# Altium schematic symbol library R.SchLib: 52 symbols
Pins are listed as number, name and electrical type; pins without a type are passive.

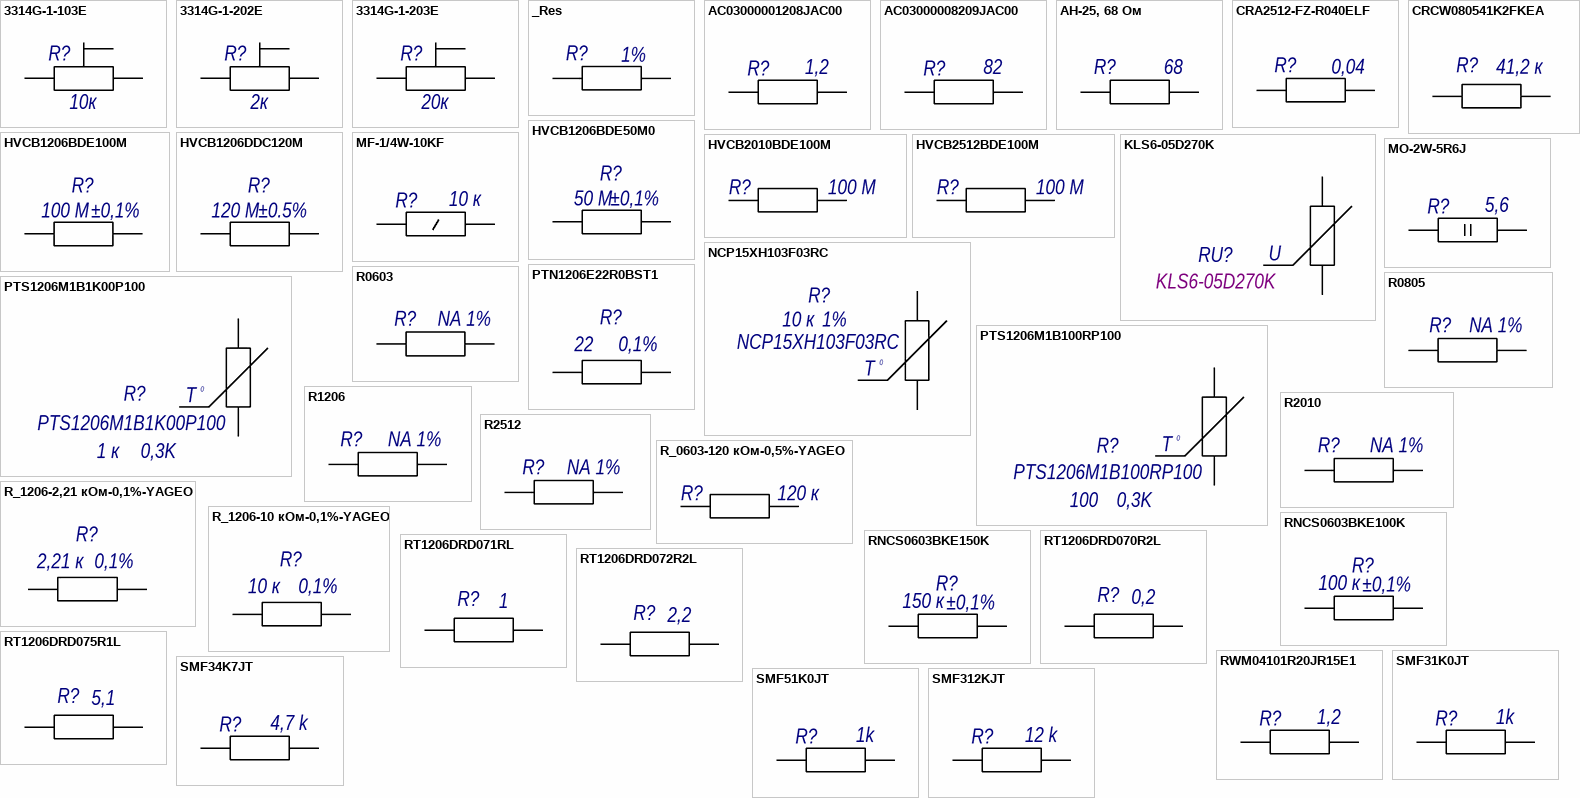
[diagram p0: symbols 3314G-1-103E to SMF312KJT]

## 3314G-1-103E
designator R?, comment value 10к  (hidden comment: Резистор 3314G-1-103E фирма "Bourns Inc.")
10 kOhms 0.25W, 1/4W Gull Wing Surface Mount Trimmer Potentiometer Cermet 1 Turn Top Adjustment; Tolerance: 20%; Manufacturer: Bourns Inc.; PartNumber: 3314G-1-103E; GOST: Резистор 3314G-1-103E фирма "Bourns Inc."
footprint 3314G-1 (Dim 4.5mm*4.5mm H=2.55mm)
pins: 1, 2, P 3
1 alternate drawing of the same symbol

## 3314G-1-202E
designator R?, comment value 2к  (hidden comment: Резистор 3314G-1-202E фирма "Bourns Inc.")
2 kOhms 0.25W, 1/4W Gull Wing Surface Mount Trimmer Potentiometer Cermet 1 Turn Top Adjustment; Tolerance: 20%; Manufacturer: Bourns Inc.; PartNumber: 3314G-1-202E; GOST: Резистор 3314G-1-202E фирма "Bourns Inc."
footprint 3314G-1 (Dim 4.5mm*4.5mm H=2.55mm)
pins: 1, 2, P 3
1 alternate drawing of the same symbol

## 3314G-1-203E
designator R?, comment value 20к  (hidden comment: Резистор 3314G-1-203E фирма "Bourns Inc.")
20 kOhms 0.25W, 1/4W Gull Wing Surface Mount Trimmer Potentiometer Cermet 1 Turn Top Adjustment; PartNumber: 3314G-1-202E; Tolerance: 20%; Manufacturer: Bourns Inc.; GOST: Резистор 3314G-1-203E фирма "Bourns Inc."
footprint 3314G-1 (Dim 4.5mm*4.5mm H=2.55mm)
pins: 1, 2, P 3
1 alternate drawing of the same symbol

## _Res
designator R?, comment 1%
Resistor; Tol: 1%
pins: 1, 2
1 alternate drawing of the same symbol

## AC03000001208JAC00
designator R?, comment value 1,2  (hidden comment: Резистор AC03000001208JAC00 фирма "Vishay")
Res 1.2 Ohms 5% 3W AXIAL; Power: 3Вт; PartNumber: AC03000001208JAC00; Tolerance: 5%; GOST: Резистор AC03000001208JAC00 фирма "Vishay"
footprint AC03 (Res AXIAL (L= 13mm (18mm) D=4.8mm) Vichay)
pins: 1, 2

## AC03000008209JAC00
designator R?, comment value 82  (hidden comment: Резистор AC03000008209JAC00 фирма "Vishay")
RES 82 OHM 3W 5% AXIAL; Power: 3Вт; PartNumber: AC03000008209JAC00; Tolerance: 5%; GOST: Резистор AC03000008209JAC00 фирма "Vishay"
footprint AC03 (Res AXIAL (L= 13mm (18mm) D=4.8mm) Vichay)
pins: 1, 2

## AH-25, 68 Ом
designator R?, comment value 68  (hidden comment: Резистор AH-25-25 Вт-68 Ом ±5% фирма "Thunder")
68 Ом, 25 Вт, 5%, резистор силовой; PartNumber: WSLP0805R0100DEA; Tol: 5%; Manufacturer: Thunder; GOST: Резистор AH-25-25 Вт-68 Ом ±5% фирма "Thunder"
footprint AH-25 (Res 25W (L= 28mm B=27mm) Thunder)
pins: 1, 2
1 alternate drawing of the same symbol

## CRA2512-FZ-R040ELF
designator R?, comment value 0,04  (hidden comment: Резистор чип CRA2512-FZ-R040ELF фирма "Bourns")
High Power Current Sense Chip Resistor, 0.04 Ohm, 1%, 3W, ±50 PPM/°C, 2512; Manufacturer: Bourns; Tol: 1%; PartNumber: CRA2512-FZ-R040ELF; GOST: Резистор чип CRA2512-FZ-R040ELF фирма "Bourns"
footprint R2512_H06M (Dim 6.3mm*3.3mm H=0.6mm)
pins: 1, 2
1 alternate drawing of the same symbol

## CRCW080541K2FKEA
designator R?, comment value 41,2 к  (hidden comment: Резистор чип CRCW080541K2FKEA фирма "Vishay / Dale")
чип 0805-0.125 Вт-41,2 кОм ±1% +155С 150В Vishay / Dale; Tc: ±100ppm/°C; Tol: 1%; Manufacturer: Vishay / Dale; PartNumber: CRCW080541K2FKEA; GOST: Резистор чип CRCW080541K2FKEA фирма "Vishay / Dale"
footprint R0805_H06M (Dim 2mm*1.25mm H=0.6mm)
pins: 1, 2
1 alternate drawing of the same symbol

## HVCB1206BDE50M0
designator R?, comment value 50 М  Tol: ±0,1%  (hidden comment: Резистор чип HVCB1206BDE50M0 фирма "Stackpole Electronics")
50 MOhms ±0.1% 0.333W, 1/3W Chip Resistor 1206 (3216 Metric) High Voltage, Pulse Withstanding Thick Film; TYP: чип 1206; Categories: Chip Resistor - Surface Mount; Temperature Coefficient: ±25ppm/°C; Manufacturer: фирма "Stackpole Electronics"; PartNumber: HVCB1206BDE50M0; Power: 0.333W; Name: Резистор; GOST: Резистор чип HVCB1206BDE50M0 фирма "Stackpole Electronics"; Operating Temperature: -55°C ~ 150°C; Package: 1206 (3216 Metric); Features: High Voltage, Pulse Withstanding; Size / Dimension: 0.126" L x 0.063" W (3.20mm x 1.60mm); Height: 0.030" (0.75mm)
footprint R1206_H06M (Dim 3.2mm*1.6mm H=0.6mm)
pins: 1, 2
1 alternate drawing of the same symbol

## HVCB1206BDE100M
designator R?, comment value 100 М  Tol: ±0,1%  (hidden comment: Резистор чип HVCB1206BDE100M фирма "Stackpole Electronics")
100 MOhms ±0.1% 0.333W, 1/3W Chip Resistor 1206 (3216 Metric) High Voltage, Pulse Withstanding Thick Film; TYP: чип 1206; Categories: Chip Resistor - Surface Mount; Temperature Coefficient: ±25ppm/°C; Manufacturer: фирма "Stackpole Electronics"; PartNumber: HVCB1206BDE100M; Power: 0.333W; Name: Резистор; GOST: Резистор чип HVCB1206BDE100M фирма "Stackpole Electronics"; Operating Temperature: -55°C ~ 150°C; Package: 1206 (3216 Metric); Features: High Voltage, Pulse Withstanding; Size / Dimension: 0.126" L x 0.063" W (3.20mm x 1.60mm); Height: 0.030" (0.75mm)
footprint R1206_H06M (Dim 3.2mm*1.6mm H=0.6mm)
pins: 1, 2
1 alternate drawing of the same symbol

## HVCB1206DDC120M
designator R?, comment value 120 М  Tol: ±0.5%  (hidden comment: Резистор чип HVCB1206DDC120M фирма "Stackpole Electronics")
120 MOhms ±0.5% 0.333W, 1/3W Chip Resistor 1206 (3216 Metric) High Voltage, Moisture Resistant, Pulse Withstanding Thick Film; TYP: чип 1206; Categories: Chip Resistor - Surface Mount; Temperature Coefficient: ±50ppm/°C; Manufacturer: фирма "Stackpole Electronics"; PartNumber: HVCB1206DDC120M; Power: 0.333W; Name: Резистор; GOST: Резистор чип HVCB1206DDC120M фирма "Stackpole Electronics"; Operating Temperature: -55°C ~ 150°C; Package: 1206 (3216 Metric); Features: High Voltage, Pulse Withstanding; Size / Dimension: 0.126" L x 0.063" W (3.20mm x 1.60mm); Height: 0.030" (0.75mm)
footprint R1206_H06M (Dim 3.2mm*1.6mm H=0.6mm)
pins: 1, 2
1 alternate drawing of the same symbol

## HVCB2010BDE100M
designator R?, comment value 100 М  (hidden comment: Резистор чип HVCB2010BDE100M фирма "Stackpole Electronics")
100 MOhms ±0.1% 1W Chip Resistor 2010; Tol: ±0,1%; Power: 1 Вт; TYP: чип 2010; Categories: Chip Resistor - Surface Mount; Temperature Coefficient: ±25ppm/°C; Manufacturer: фирма "Stackpole Electronics"; PartNumber: HVCB2010BDE100M; Name: Резистор; GOST: Резистор чип HVCB2010BDE100M фирма "Stackpole Electronics"; Operating Temperature: -55°C ~ 150°C; Package: 2010; Features: High Voltage, Pulse Withstanding; Size / Dimension: 5.08mm x 2.54mm; Height: 0.030" (0.76mm)
footprint R2010_H06M (Dim 5mm*2.5mm H=0.6mm)
pins: 1, 2
1 alternate drawing of the same symbol

## HVCB2512BDE100M
designator R?, comment value 100 М  (hidden comment: Резистор чип HVCB2512BDE100M фирма "Stackpole Electronics")
100 MOhms ±0.1% 2W Chip Resistor 2512 (6432 Metric) High Voltage, Pulse Withstanding Thick Film; Tol: ±0,1%; Power: 2 Вт; TYP: чип 2512; Categories: Chip Resistor - Surface Mount; Temperature Coefficient: ±25ppm/°C; Manufacturer: фирма "Stackpole Electronics"; PartNumber: HVCB2512BDE100M; Name: Резистор; GOST: Резистор чип HVCB2512BDE100M фирма "Stackpole Electronics"; Operating Temperature: -55°C ~ 150°C; Package: 2512 (6432 Metric); Features: High Voltage, Pulse Withstanding; Size / Dimension: 0.250" L x 0.125" W (6.35mm x 3.18mm); Height: 0.030" (0.76mm)
footprint R2512_H06M (Dim 6.3mm*3.3mm H=0.6mm)
pins: 1, 2
1 alternate drawing of the same symbol

## KLS6-05D270K
designator RU?, comment PartNumber: KLS6-05D270K  (hidden comment: Варистор KLS6-05D270K фирма "KLS Electronic Co.")
Varistor AC=17В, DC=22В 10%; Manufacturer: KLS Electronic Co.; GOST: Варистор KLS6-05D270K фирма "KLS Electronic Co."
footprint KLS6-05D (Varistor, round, D=7.5 mm max, B=6mm max, pitch=5mm, d=0.6mm)
pins: 1, 2
1 alternate drawing of the same symbol
text: U

## MF-1/4W-10KF
designator R?, comment value 10 к  (hidden comment: Резистор MF-1/4W-10KF)
Res 10 kOhms 1% 0,25W AXIAL MF-25 (С2-23 0,25 Вт); PartNumber: Тайвань; Power: 0,25 Вт; Tolerance: 1%; GOST: Резистор MF-1/4W-10KF
footprint С2-23 0.25 Вт (10mm) (Res AXIAL (L= 6mm (10mm) D=2.5mm))
pins: 1, 2

## MO-2W-5R6J
designator R?, comment value 5,6  (hidden comment: Резистор MO-2W-5R6J фирма "KLS Electronic")
Res 5.6 Ohms 5% 2W AXIAL MO-200 (С2-23 2 Вт); Power: 2Вт; PartNumber: KLS Electronic; Tolerance: 5%; GOST: Резистор MO-2W-5R6J фирма "KLS Electronic"
footprint С2-23 2 Вт (25mm) (Res AXIAL (L= 15mm (25mm) D=5mm))
pins: 1, 2

## NCP15XH103F03RC
designator R?, comment value 10 к  Tol: 1%  PartNumber: NCP15XH103F03RC  (hidden comment: Терморезистор NCP15XH103F03RC фирма "Murata")
NTC Thermistors 10 kOhms -40°C ~ 125°C  0402 (1005 Metric); Manufacturer: Murata; GOST: Терморезистор NCP15XH103F03RC фирма "Murata"
footprint R0402_H05M (Dim 1mm*0.5mm H=0.5mm)
pins: 1, 2
1 alternate drawing of the same symbol
text: T; 0

## PTN1206E22R0BST1
designator R?, comment value 22  Tol: 0,1%  (hidden comment: Резистор чип 1206-0,4 Вт-22 Ом ±0,1% фирма "VISHAY")
22 Ohms ±0.1% 0.4W, 2/5W Chip Resistor 1206 (3216 Metric) Anti-Sulfur, Moisture Resistant, Non-Inductive Thin Film; Manufacturer: Vishay Thin Film; PartNumber: PTN1206E22R0BST1; Hight: 0.84mm; GOST: Резистор чип 1206-0,4 Вт-22 Ом ±0,1% фирма "VISHAY"
footprint R1206_H06M (Dim 3.2mm*1.6mm H=0.6mm)
pins: 1, 2
1 alternate drawing of the same symbol

## PTS1206M1B1K00P100
designator R?, comment value 1 к  Tol: 0,3K  PartNumber: PTS1206M1B1K00P100  (hidden comment: Терморезистор PTS1206M1B1K00P100 фирма "Vishay")
1 kOhms RTD Platinum ±3850ppm/°C -55°C ~ 175°C 1206 (3216 Metric); Manufacturer: VISHAY; GOST: Терморезистор PTS1206M1B1K00P100 фирма "Vishay"
footprint R1206_H06M (Dim 3.2mm*1.6mm H=0.6mm)
pins: 1, 2
1 alternate drawing of the same symbol
text: T; 0

## PTS1206M1B100RP100
designator R?, comment value 100  Tol: 0,3K  PartNumber: PTS1206M1B100RP100  (hidden comment: Терморезистор PTS1206M1B100RP100 фирма "Vishay")
100 Ohms RTD Platinum ±3850ppm/°C -55°C ~ 175°C 1206 (3216 Metric); Manufacturer: VISHAY; GOST: Терморезистор PTS1206M1B100RP100 фирма "Vishay"
footprint R1206_H06M (Dim 3.2mm*1.6mm H=0.6mm)
pins: 1, 2
1 alternate drawing of the same symbol
text: T; 0

## R0603
designator R?, comment NA 1%
Resistor; Manufacturer: Any; Tol: 1%; PartNumber: NA; Value: NA
footprint R0603_H05M (Dim 1.6mm*0.8mm H=0.45mm)
pins: 1, 2
1 alternate drawing of the same symbol

## R0805
designator R?, comment NA 1%
Resistor; Manufacturer: Any; PartNumber: NA; Value: NA; Tol: 1%
footprint R0805_H06M (Dim 2mm*1.25mm H=0.6mm)
pins: 1, 2
1 alternate drawing of the same symbol

## R1206
designator R?, comment NA 1%
Resistor; Manufacturer: Any; Tol: 1%; PartNumber: NA; Value: NA
footprint R1206_H06M (Dim 3.2mm*1.6mm H=0.6mm)
pins: 1, 2
1 alternate drawing of the same symbol

## R2010
designator R?, comment NA 1%
Resistor; Manufacturer: Any; Tol: 1%; PartNumber: NA; Value: NA
footprint R2010_H06M (Dim 5mm*2.5mm H=0.6mm)
pins: 1, 2
1 alternate drawing of the same symbol

## R2512
designator R?, comment NA 1%
Resistor; Manufacturer: Any; Tol: 1%; PartNumber: NA; Value: NA
footprint R2512_H06M (Dim 6.3mm*3.3mm H=0.6mm)
pins: 1, 2
1 alternate drawing of the same symbol

## R_0603-120 кОм-0,5%-YAGEO
designator R?, comment value 120 к  (hidden comment: Резистор чип 0603-0,1 Вт-120 кОм ±0,5% фирма "YAGEO")
чип 0603-0,1 Вт-120 кОм ±0,5% фирма "YAGEO"; Tol: ±0.5%; Power: 0,1 Вт; Manufacturer: фирма "YAGEO"; Name: Резистор; TYP: чип 0603; GOST: Резистор чип 0603-0,1 Вт-120 кОм ±0,5% фирма "YAGEO"
footprint R0603_H05M (Dim 1.6mm*0.8mm H=0.45mm)
pins: 1, 2
1 alternate drawing of the same symbol

## R_1206-2,21 кОм-0,1%-YAGEO
designator R?, comment value 2,21 к  Tol: 0,1%  (hidden comment: Резистор чип 1206-0,25 Вт-2,21 кОм ±0,1% фирма "YAGEO")
чип 1206-0.25 Вт- 2,21 кОм ±0.1%; Manufacturer: Yageo; GOST: Резистор чип 1206-0,25 Вт-2,21 кОм ±0,1% фирма "YAGEO"
footprint R1206_H06M (Dim 3.2mm*1.6mm H=0.6mm)
pins: 1, 2
1 alternate drawing of the same symbol

## R_1206-10 кОм-0,1%-YAGEO
designator R?, comment value 10 к  Tol: 0,1%  (hidden comment: Резистор чип 1206-0,25 Вт-10 кОм ±0,1% фирма "YAGEO")
чип 1206-0.25 Вт- 10 кОм ±0.1%; Manufacturer: Yageo; GOST: Резистор чип 1206-0,25 Вт-10 кОм ±0,1% фирма "YAGEO"
footprint R1206_H06M (Dim 3.2mm*1.6mm H=0.6mm)
pins: 1, 2
1 alternate drawing of the same symbol

## RNCS0603BKE100K
designator R?, comment value 100 к  Tol: ±0,1%  (hidden comment: Резистор чип RNCS0603BTE100K фирма "Stackpole Electronics")
100 kOhms ±0.1% 0.063W, 1/16W Chip Resistor 0603 (1608 Metric) Anti-Corrosive, Automotive AEC-Q200, Moisture Resistant Thin Film; Power: 1/16 Вт; TYP: чип 0603; Manufacturer: Stackpole Electronics; PartNumber: RNCS0603BTE100K; Name: Резистор; GOST: Резистор чип RNCS0603BTE100K фирма "Stackpole Electronics"; Features: Anti-Corrosive, Automotive AEC-Q200, Moisture Resistant
footprint R0603_H05M (Dim 1.6mm*0.8mm H=0.45mm)
pins: 1, 2
1 alternate drawing of the same symbol

## RNCS0603BKE150K
designator R?, comment value 150 к  Tol: ±0,1%  (hidden comment: Резистор чип RNCS0603BTE150K фирма "Stackpole Electronics")
150 kOhms ±0.1% 0.063W, 1/16W Chip Resistor 0603 (1608 Metric) Anti-Corrosive, Automotive AEC-Q200, Moisture Resistant Thin Film; Power: 1/16 Вт; TYP: чип 0603; Manufacturer: Stackpole Electronics; PartNumber: RNCS0603BTE150K; Name: Резистор; GOST: Резистор чип RNCS0603BTE150K фирма "Stackpole Electronics"; Features: Anti-Corrosive, Automotive AEC-Q200, Moisture Resistant
footprint R0603_H05M (Dim 1.6mm*0.8mm H=0.45mm)
pins: 1, 2
1 alternate drawing of the same symbol

## RT1206DRD070R2L
designator R?, comment value 0,2  (hidden comment: Резистор чип RT1206DRD070R2L фирма "YAGEO")
чип 1206-0.25 Вт- 0,2 Ом ±0.5%; Manufacturer: Yageo; Tol: ±0,5%; Tc: ±25ppm/°C; PartNumber: RT1206DRD070R2L; GOST: Резистор чип RT1206DRD070R2L фирма "YAGEO"
footprint R1206_H06M (Dim 3.2mm*1.6mm H=0.6mm)
pins: 1, 2
1 alternate drawing of the same symbol

## RT1206DRD071RL
designator R?, comment value 1  (hidden comment: Резистор чип RT1206DRD071RL фирма "YAGEO")
чип 1206-0.25 Вт- 1 Ом ±0.5%; Manufacturer: Yageo; Tol: ±0,5%; Tc: ±25ppm/°C; PartNumber: RT1206DRD071RL; GOST: Резистор чип RT1206DRD071RL фирма "YAGEO"
footprint R1206_H06M (Dim 3.2mm*1.6mm H=0.6mm)
pins: 1, 2
1 alternate drawing of the same symbol

## RT1206DRD072R2L
designator R?, comment value 2,2  (hidden comment: Резистор чип RT1206DRD072R2L фирма "YAGEO")
чип 1206-0.25 Вт- 2,2 Ом ±0.5%; Manufacturer: Yageo; Tol: ±0,5%; Tc: ±25ppm/°C; PartNumber: RT1206DRD072R2L; GOST: Резистор чип RT1206DRD072R2L фирма "YAGEO"
footprint R1206_H06M (Dim 3.2mm*1.6mm H=0.6mm)
pins: 1, 2
1 alternate drawing of the same symbol

## RT1206DRD075R1L
designator R?, comment value 5,1  (hidden comment: Резистор чип RT1206DRD075R1L фирма "YAGEO")
чип 1206-0.25 Вт- 5,1 Ом ±0.5%; Manufacturer: Yageo; Tol: ±0,5%; Tc: ±25ppm/°C; PartNumber: RT1206DRD075R1L; GOST: Резистор чип RT1206DRD075R1L фирма "YAGEO"
footprint R1206_H06M (Dim 3.2mm*1.6mm H=0.6mm)
pins: 1, 2
1 alternate drawing of the same symbol

## RWM04101R20JR15E1
designator R?, comment value 1,2  (hidden comment: Резистор RWM04101R20JR15E1 фирма "Vishay")
Res 1.2 Ohms 5% 3W Through Hole Resistor Axial Flame Proof, Safety Wirewound; Power: 3Вт; PartNumber: RWM04101R20JR15E1; Tolerance: 5%; GOST: Резистор RWM04101R20JR15E1 фирма "Vishay"
footprint RWM4x10 (Res AXIAL (L= 13mm (20mm) D=6.5mm) Vichay)
pins: 1, 2

## SMF31K0JT
designator R?, comment value 1k  (hidden comment: Резистор чип SMF31K0JT фирма "TE Connectivity")
RES SMD 1K OHM 5% 3W; Power: 3Вт; PartNumber: SMF31K0JT; Tolerance: 5%; GOST: Резистор чип SMF31K0JT фирма "TE Connectivity"
footprint SMF3 (Dim 12mm*5.5mm H=5mm SMD Moulded Power Resistor SM series 3W)
footprint SMF3 and krepl (Dim 12mm*5.5mm H=5mm SMD Moulded Power Resistor SM series 3W)
pins: 1, 2

## SMF34K7JT
designator R?, comment value 4,7 k  (hidden comment: Резистор чип SMF34K7JT фирма "TE Connectivity")
RES SMD 4.7K OHM 5% 3W 4122; PartNumber: SMF34K7JT; Tolerance: ±5%; Power: 3W; GOST: Резистор чип SMF34K7JT фирма "TE Connectivity"
footprint SMF3 (Dim 12mm*5.5mm H=5mm SMD Moulded Power Resistor SM series 3W)
footprint SMF3 and krepl (Dim 12mm*5.5mm H=5mm SMD Moulded Power Resistor SM series 3W)
pins: 1, 2

## SMF51K0JT
designator R?, comment value 1k  (hidden comment: Резистор чип SMF51K0JT фирма "TE Connectivity")
RES SMD 1K OHM 5% 5W 5329; Power: 5Вт; PartNumber: SMF51K0JT; Tolerance: 5%; GOST: Резистор чип SMF51K0JT фирма "TE Connectivity"
footprint SMF5 (Dim 13.5mm*7.3mm H=6.8mm SMD Moulded Power Resistor SM series 5W)
footprint SMF5 and krepl (Dim 13.5mm*7.3mm H=6.8mm SMD Moulded Power Resistor SM series 5W)
pins: 1, 2

## SMF312KJT
designator R?, comment value 12 k  (hidden comment: Резистор чип SMF312KJT фирма "TE Connectivity")
RES SMD 12K OHM 5% 3W 4122; PartNumber: SMF312KJT; Tolerance: ±5%; Power: 3W; GOST: Резистор чип SMF312KJT фирма "TE Connectivity"
footprint SMF3 (Dim 12mm*5.5mm H=5mm SMD Moulded Power Resistor SM series 3W)
footprint SMF3 and krepl (Dim 12mm*5.5mm H=5mm SMD Moulded Power Resistor SM series 3W)
pins: 1, 2

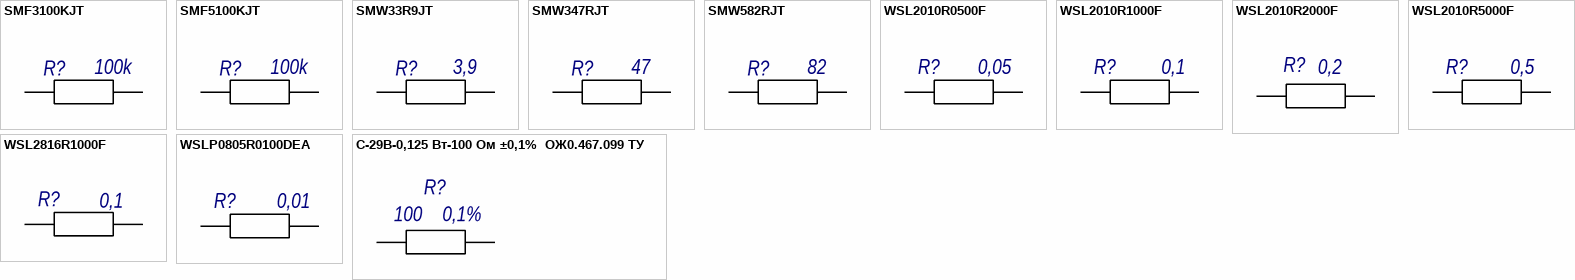
[diagram p1: symbols SMF3100KJT to С-29В-0,125 Вт-100 Ом ±0,1%  ОЖ0.467.099 ТУ]

## SMF3100KJT
designator R?, comment value 100k  (hidden comment: Резистор чип SMF3100KJT фирма "TE Connectivity")
RES SMD 100K OHM 5% 3W; Power: 3Вт; PartNumber: SMF3100KJT; Tolerance: 5%; GOST: Резистор чип SMF3100KJT фирма "TE Connectivity"
footprint SMF3 (Dim 12mm*5.5mm H=5mm SMD Moulded Power Resistor SM series 3W)
footprint SMF3 and krepl (Dim 12mm*5.5mm H=5mm SMD Moulded Power Resistor SM series 3W)
pins: 1, 2

## SMF5100KJT
designator R?, comment value 100k  (hidden comment: Резистор чип SMF5100KJT фирма "TE Connectivity")
RES SMD 100K OHM 5% 5W 5329; Power: 5Вт; PartNumber: SMF5100KJT; Tolerance: 5%; GOST: Резистор чип SMF5100KJT фирма "TE Connectivity"
footprint SMF5 (Dim 13.5mm*7.3mm H=6.8mm SMD Moulded Power Resistor SM series 5W)
footprint SMF5 and krepl (Dim 13.5mm*7.3mm H=6.8mm SMD Moulded Power Resistor SM series 5W)
pins: 1, 2

## SMW33R9JT
designator R?, comment value 3,9  (hidden comment: Резистор чип SMW33R9JT фирма "TE Connectivity")
RES SMD 3.9 OHM 5% 3W; Power: 3Вт; PartNumber: SMW33R9JT; Tolerance: 5%; GOST: Резистор чип SMW33R9JT фирма "TE Connectivity"
footprint SMF3 (Dim 12mm*5.5mm H=5mm SMD Moulded Power Resistor SM series 3W)
footprint SMF3 and krepl (Dim 12mm*5.5mm H=5mm SMD Moulded Power Resistor SM series 3W)
pins: 1, 2

## SMW347RJT
designator R?, comment value 47  (hidden comment: Резистор чип SMW347RJT фирма "TE Connectivity")
RES SMD 47 OHM 5% 3W; Power: 3Вт; PartNumber: SMW347RJT; Tolerance: 5%; GOST: Резистор чип SMW347RJT фирма "TE Connectivity"
footprint SMF3 (Dim 12mm*5.5mm H=5mm SMD Moulded Power Resistor SM series 3W)
footprint SMF3 and krepl (Dim 12mm*5.5mm H=5mm SMD Moulded Power Resistor SM series 3W)
pins: 1, 2

## SMW582RJT
designator R?, comment value 82  (hidden comment: Резистор чип SMW582RJT фирма "TE Connectivity")
RES SMD 82 OHM 5% 5W 5329; Power: 5Вт; PartNumber: SMW582RJT; Tolerance: 5%; GOST: Резистор чип SMW582RJT фирма "TE Connectivity"
footprint SMF5 (Dim 13.5mm*7.3mm H=6.8mm SMD Moulded Power Resistor SM series 5W)
footprint SMF5 and krepl (Dim 13.5mm*7.3mm H=6.8mm SMD Moulded Power Resistor SM series 5W)
pins: 1, 2

## WSL2010R0500F
designator R?, comment value 0,05  (hidden comment: Резистор чип WSL2010R0500F фирма "Vishay/Dale")
Current Sense Resistor 1/2 watt 0.05ohm 1%; Tol: 1%; Manufacturer: Vishay/Dale; PartNumber: WSL2010R0500F; GOST: Резистор чип WSL2010R0500F фирма "Vishay/Dale"
footprint WSL2010-18_H0.76max (чип 2010 Dim 5.33mm*2.8mm    H=0.508mm (0.76max))
pins: 1, 2
1 alternate drawing of the same symbol

## WSL2010R1000F
designator R?, comment value 0,1  (hidden comment: Резистор чип WSL2010R1000F фирма "Vishay/Dale")
Current Sense Resistor 1/2watt 0.1ohm 1%; Tol: 1%; Manufacturer: Vishay/Dale; PartNumber: WSL2010R1000F; GOST: Резистор чип WSL2010R1000F фирма "Vishay/Dale"
footprint WSL2010-18_H0.76max (чип 2010 Dim 5.33mm*2.8mm    H=0.508mm (0.76max))
pins: 1, 2
1 alternate drawing of the same symbol

## WSL2010R2000F
designator R?, comment value 0,2  (hidden comment: Резистор чип WSL2010R2000F фирма "Vishay/Dale")
Current Sense Resistor 1/2watt 0.2ohm ±1%; Tol: ±1%; Manufacturer: Vishay/Dale; PartNumber: WSL2010R2000F; GOST: Резистор чип WSL2010R2000F фирма "Vishay/Dale"
footprint WSL2010-18_H0.76max (чип 2010 Dim 5.33mm*2.8mm    H=0.508mm (0.76max))
pins: 1, 2
1 alternate drawing of the same symbol

## WSL2010R5000F
designator R?, comment value 0,5  (hidden comment: Резистор чип WSL2010R5000F фирма "Vishay/Dale")
Current Sense Resistor 1/2watt 0.5ohm 1%; Tol: 1%; Manufacturer: Vishay/Dale; PartNumber: WSL2010R5000F; GOST: Резистор чип WSL2010R5000F фирма "Vishay/Dale"
footprint WSL2010-18_H0.76max (чип 2010 Dim 5.33mm*2.8mm    H=0.508mm (0.76max))
pins: 1, 2
1 alternate drawing of the same symbol

## WSL2816R1000F
designator R?, comment value 0,1  (hidden comment: Резистор чип WSL2816R1000F фирма "Vishay/Dale")
Current Sense Resistor 2 watt 0.1ohm 1%; Tol: 1%; Manufacturer: Vishay/Dale; PartNumber: WSL2816R1000F; GOST: Резистор чип WSL2816R1000F фирма "Vishay/Dale"
footprint WSL2816-T1.6_H0.635 (чип 2816 Dim 7.1mm*4.2mm    H=0.635mm (0.889max))
pins: 1, 2
1 alternate drawing of the same symbol

## WSLP0805R0100DEA
designator R?, comment value 0,01  (hidden comment: Резистор чип WSLP0805R0100DEA фирма "Vishay/Dale")
High Precision Current Sensing Metal Strip Resistors 1/2watt 0.01ohm 0.5% 170С; Tol: 0,5%; Dim: 2,03x1,27x0,33 mm; Manufacturer: Vishay/Dale; PartNumber: WSLP0805R0100DEA; GOST: Резистор чип WSLP0805R0100DEA фирма "Vishay/Dale"
footprint R0805_H06M (Dim 2mm*1.25mm H=0.6mm)
pins: 1, 2
1 alternate drawing of the same symbol

## С-29В-0,125 Вт-100 Ом ±0,1%  ОЖ0.467.099 ТУ
designator R?, comment value 100  Tol: 0,1%  (hidden comment: Резистор С-29В-0,125 Вт-100 Ом ±0,1%  ОЖ0.467.099 ТУ)
С2-29В 0.125 Вт 100 Ом ±0.1% ОЖ0.467.099 ТУ; Manufacturer: Эркон; GOST: Резистор С-29В-0,125 Вт-100 Ом ±0,1%  ОЖ0.467.099 ТУ
footprint С2-29В 0.125 Вт (pitch 12.5mm) (Res AXIAL (L= 8mm D=3.5mm pitch 12.5mm))
pins: 1, 2
1 alternate drawing of the same symbol